# Altium schematic symbol library SIM808 dev Board V1.0.2.SCHLIB: 17 symbols
Pins are listed as number, name and electrical type; pins without a type are passive.

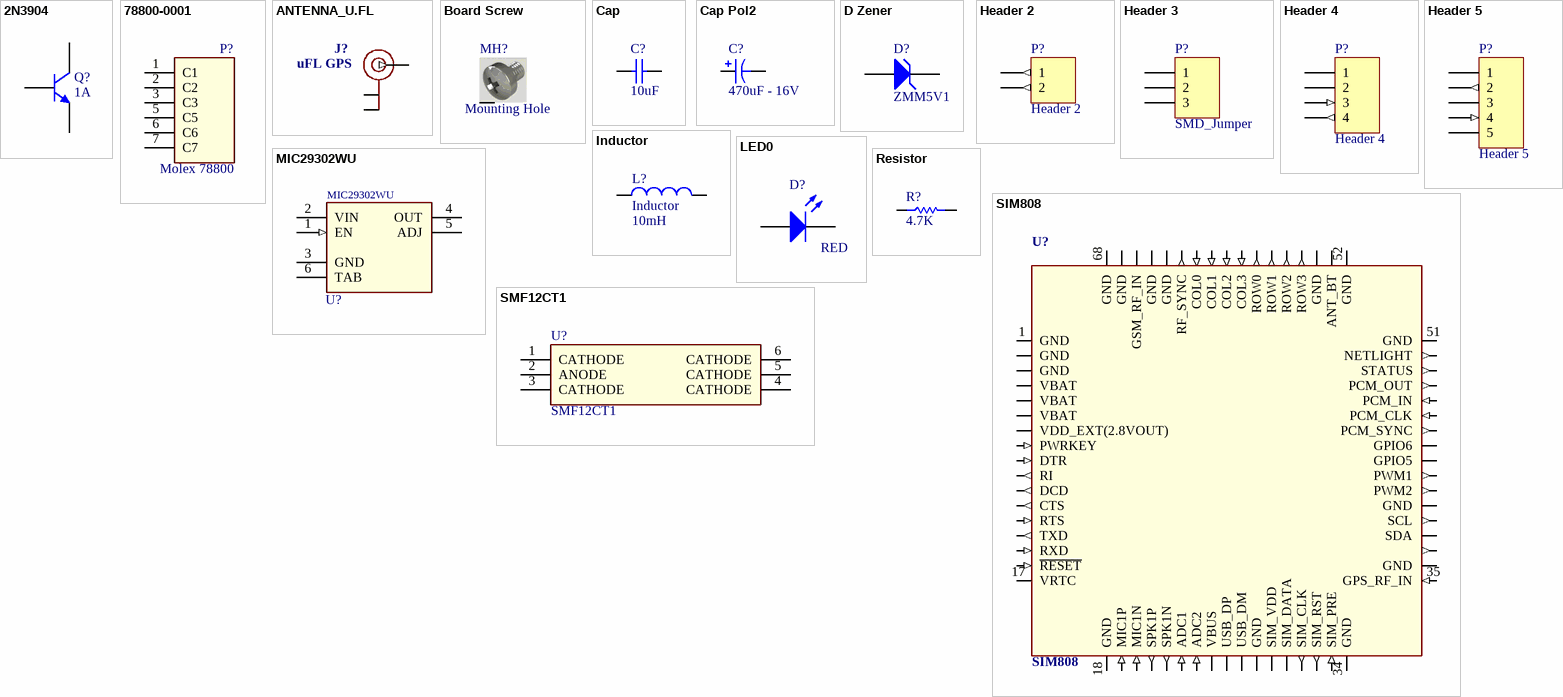
[diagram p0: symbols 2N3904 to SMF12CT1]

## 2N3904
designator Q?, comment 1A
Infineon; Published: 8-Jun-2000; LatestRevisionDate: 17-Jan-2003; LatestRevisionNote: PCB Footprint 'BCY-W3/D4.7' replaced; DatasheetDocument: 1997; PackageDocument: Sep-1998; PackageReference: TO-92A; Publisher: Altium Limited; ComponentLink1Description: Manufacturer Link; ComponentLink1URL: http://www.fairchildsemi.com/; ComponentLink2Description: Datasheet; ComponentLink2URL: http://www.fairchildsemi.com/ds/2N%2F2N3904.pdf
footprint SOT-23
simulation model 2N3904 (NPN)
signal-integrity model 2N3904
pins: 1 B, 2 E, 3 C

## 78800-0001
designator P?, comment Molex 78800
Molex 78800-0001 1.40mm Height Hinged-style micro-SIM Card Socket without Detect Switch, Surface Mount, 6 Circuits, Halogen-Free, Lead...; MP: 78800-0001; Package: None; Availability: Unavailable; MF: Molex; Price: None; SnapEDA_Link: https://www.snapeda.com/parts/78800-0001/Molex/view-part/?ref=snap; Value: *
footprint MOLEX_78800-0001
pins: 1 C1, 2 C2, 3 C3, 5 C5, 6 C6, 7 C7

## ANTENNA_U.FL
designator J?, comment uFL GPS
U.FL Antenna Connector; GateName_1: G$1; DeviceSetName: ANTENNA_U.FL; SymbolName_1: U.FL; LibraryName: microbuilder
footprint UFL
pins: 1 GND, 2 GND, 3 SIGNAL (out)

## Board Screw
designator MH?, comment Mounting Hole  (no BOM)
Board Screw With Spacer
footprint SCREW-3
footprint Board Screw_No Silk
pins: S

## Cap
designator C?, comment 10uF
Capacitor; Published: 8-Jun-2000; LatestRevisionDate: 17-Jul-2002; LatestRevisionNote: Re-released for DXP Platform.; PackageReference: RAD-0.3; Publisher: Altium Limited; PackageDescription: Radial Cap, Thru-Hole; 2 Leads; 0.3 in Pin Spacing; Value: 10uF
footprint C0805 (Chip Capacitor, Body 2.0x1.3mm, IPC High Density)
simulation model CAP (Capacitor)
signal-integrity model Cap
footprint CAP0805
footprint CAP1206
pins: 1, 2

## Cap Pol2
designator C?, comment value 470uF - 16V  (hidden comment: 470uF)
SMD Tantalum Capacitor; Published: 8-Jun-2000; LatestRevisionDate: 17-Jul-2002; LatestRevisionNote: Re-released for DXP Platform.; PackageReference: POLAR0.8; Publisher: Altium Limited; PackageDescription: Polarized Capacitor; 2 Leads
footprint POLAR0.8 (Polarized Capacitor; 2 Leads)
simulation model CAP (Capacitor)
signal-integrity model Cap Pol
footprint CAP-D (Chip Capacitor, Body 7.2x3.8mm, IPC Medium Density)
pins: 1, 2
1 alternate drawing of the same symbol

## D Zener
designator D?, comment ZMM5V1
ZENER 5.1V-MINI MELF; Published: 8-Jun-2000; LatestRevisionDate: 17-Jul-2002; LatestRevisionNote: Re-released for DXP Platform.; PackageReference: DIODE-0.7; Publisher: Altium Limited; PackageDescription: Diode, Thru-Hole; 2 Leads; 0.7 in Pin Spacing
footprint DIODE-SHOTTKY
simulation model ZENER (Diode)
signal-integrity model D Zener
footprint ZMM5V1
pins: 1 A, 2 K

## Header 2
designator P?
Header, 2-Pin; LatestRevisionDate: 17-Jul-2002; LatestRevisionNote: Re-released for DXP Platform.; Publisher: Altium Limited
footprint HDR1X2 (Connector; Header; 2 Position)
signal-integrity model Connector
pins: 1 (out), 2 (out)

## Header 3
designator P?, comment SMD_Jumper
Header, 3-Pin; LatestRevisionDate: 17-Jul-2002; LatestRevisionNote: Re-released for DXP Platform.; Publisher: Altium Limited
footprint Jumper Selector SMD
signal-integrity model Connector
pins: 1, 2, 3

## Header 4
designator P?
Header, 4-Pin; LatestRevisionDate: 17-Jul-2002; LatestRevisionNote: Re-released for DXP Platform.; Publisher: Altium Limited
footprint Pin Header 1x4 TH Pitch 2.54mm (PinHeader 1x4 TH Pitch 2.54mm)
signal-integrity model Connector
pins: 1 (power), 2 (power), 3 (in), 4 (out)

## Header 5
designator P?
Header, 5-Pin; LatestRevisionDate: 17-Jul-2002; LatestRevisionNote: Re-released for DXP Platform.; Publisher: Altium Limited
footprint Pin Header 1x5 TH Pitch 2.54mm (PinHeader 1x5 TH Pitch 2.54mm)
signal-integrity model Connector
pins: 1 (power), 2 (out), 3 (power), 4 (in), 5 (power)

## Inductor
designator L?  value 10mH
Code_IEC: 1005; Published: 8-Jun-2000; LatestRevisionDate: 29-May-2009; LatestRevisionNote: IPC-7351 Footprint Added.; PackageReference: 0402-A; Publisher: Altium Limited; PackageDescription: Chip Inductor; Code_JEITA: 0402
footprint 0402-A (Chip Inductor, Body 1.0x0.5mm, IPC High Density)
footprint IND0603
footprint 2029 (Chip Inductor, Body 2.0x1.2mm, IPC High Density)
footprint 0603 (Chip Inductor, Body 0.6x0.3mm, IPC High Density)
footprint INDC3216 (Chip Inductor, Body 3.2x1.6mm, IPC High Density)
footprint INDC4532 (Chip Inductor, Body 4.5x3.2mm, IPC High Density)
simulation model INDUCTOR (Inductor)
signal-integrity model Inductor
pins: 1, 2

## LED0
designator D?, comment Color: RED  (hidden comment: PPS)
Typical INFRARED GaAs LED; Published: 8-Jun-2000; LatestRevisionDate: 08-Jul-2005; LatestRevisionNote: Mech Layer 1 removed.; PackageReference: LED-0; Publisher: Altium Limited; PackageDescription: LED; 2 Leads
footprint LED-GHABDAR (Typical RED GaAs LED; 2 Leads)
simulation model LED0 (Diode)
footprint LED SMD (603)
footprint LED0603R
pins: 1 A, 2 K

## MIC29302WU
designator U?  (value not drawn)
MIC29302 Series 16 V 3 A Surface Mount Low Dropout Voltage Regulator - TO-263-5; MP: MIC29302AWU-TR; MF: Microchip; Package: TO-263-5 Microchip; Availability: Unavailable; Price: None; SnapEDA_Link: https://www.snapeda.com/parts/MIC29302AWU-TR/Microchip/view-part/?ref=snap; Value: *
footprint TO263-5
pins: 1 EN (in), 2 VIN (power), 3 GND (power), 4 OUT (power), 5 ADJ (power), 6 TAB (power)

## Resistor
designator R?, comment 4.7K
Resistor; Tolerance: 5%; Power: 1/8 W; Value: 4.7K
simulation model Model Name (Model Description)
footprint Res-(1/8)
footprint Res-(1/4)
footprint Res-(1/2)
footprint Res-(1/1)
footprint Res-(2/1)
footprint RES 0201 (0603X03L) (Chip Resistor, 2-Leads, Body 0.6x0.3mm, IPC High Density (0.05 W))
footprint RES 0402 (1005X04L) (Chip Resistor, 2-Leads, Body 1.0x0.5mm, IPC High Density _ (0.031/0.063 W))
footprint RES 0603 (1608X06L) (Chip Resistor, 2-Leads, Body 1.6x0.8mm, IPC High Density _ (0.063W))
footprint RES 0805 (2012X06L) (Chip Resistor, 2-Leads, Body 2.0x1.3mm, IPC High Density _ (0.100 W))
footprint RES 1206 (3216X08L) (Chip Resistor, 2-Leads, Body 3.2x1.6mm, IPC High Density _ (0.125 W))
footprint RES 1210 (3226X07L) (Chip Resistor, 2-Leads, Body 3.2x2.6mm, IPC High Density _ (0.250 W))
footprint RES 1217 (3042X09L) (Chip Resistor, 2-Leads, Body 3.0x4.2mm, IPC High Density _ (0.250 W))
footprint RES 2010 (5026X08L) (Chip Resistor, 2-Leads, Body 5.0x2.6mm, IPC High Density _ (0.250 W))
footprint RES 2020 (5151X09L) (Chip Resistor, 2-Leads, Body 5.1x5.1mm, IPC High Density _ (0.5 W))
footprint RES 2045 (50115X09L) (Chip Resistor, 2-Leads, Body 5.0x11.5mm, IPC High Density _ (1.0 W))
footprint RES 2512 (6331X07L) (Chip Resistor, 2-Leads, Body 6.3x3.1mm, IPC High Density _ (0.500 W))
footprint Res-(1/4)-Stand
footprint Res-(5/1)-Stand
footprint SMD_RES_0603 (Chip Resistor, 2-Leads, Body 1.6x0.8mm, IPC High Density _ (0.063W))
footprint SMD_RES_0805 (Chip Resistor, 2-Leads, Body 2.0x1.3mm, IPC High Density _ (0.100 W))
footprint SMD_RES_1206 (Chip Resistor, 2-Leads, Body 3.2x1.6mm, IPC High Density _ (0.125 W))
footprint CR RES0603
footprint CAP0805
footprint RES0805
footprint 6-0805_N
footprint RES0603
pins: 1, 2

## SIM808
designator U?
SIM808 module is a complete Quad-Band GSM/GPRS module which combines GPS technology for satellite navigation.; GateName_1: G$1; SymbolName_1: SIM808_LITERAL; DeviceSetName: GSM_SIM808_LITERAL; LibraryName: microbuilder
footprint QFN100P2400X2400X260-68N
pins: 1 GND (power), 2 GND (power), 3 GND (power), 4 VBAT (power), 5 VBAT (power), 6 VBAT (power), 7 VDD_EXT(2.8VOUT) (power), 8 PWRKEY (in), 9 DTR (in), 10 RI (out), 11 DCD (out), 12 CTS (out), 13 RTS (in), 14 TXD (out), 15 RXD (in), 16 ~{RESET} (in), 17 VRTC (power), 18 GND (power), 19 MIC1P (in), 20 MIC1N (in), 21 SPK1P (out), 22 SPK1N (out), 23 ADC1 (in), 24 ADC2 (in), 25 VBUS (power), 26 USB_DP (io), 27 USB_DM (io), 28 GND (power), 29 SIM_VDD (power), 30 SIM_DATA (io), 31 SIM_CLK (out), 32 SIM_RST (out), 33 SIM_PRE (in), 34 GND (power), 35 GPS_RF_IN (in), 36 GND (power), 37 1PPS (out), 38 SDA (io), 39 SCL (out), 40 GND (power), 41 PWM2 (out), 42 PWM1 (out), 43 GPIO5 (io), 44 GPIO6 (io), 45 PCM_SYNC (out), 46 PCM_CLK (in), 47 PCM_IN (in), 48 PCM_OUT (out), 49 STATUS (out), 50 NETLIGHT (out), 51 GND (power), 52 GND (power), 53 ANT_BT (io), 54 GND (power), 55 ROW3 (out), 56 ROW2 (out), 57 ROW1 (out), 58 ROW0 (out), 59 COL3 (in), 60 COL2 (in), 61 COL1 (in), 62 COL0 (in), 63 RF_SYNC (out), 64 GND (power), 65 GND (power), 66 GSM_RF_IN (io), 67 GND (power), 68 GND (power)

## SMF12CT1
designator U?
5-Line Transient Voltage Suppressor Array; MF: ON Semiconductor; Package: SOT-363 ON Semiconductor; SnapEDA_Link: https://www.snapeda.com/parts/SMF12CT1/ON%20Semiconductor/view-part/?ref=snap; MP: SMF12CT1; Availability: Unavailable; Price: None; Value: *
footprint INF-PG-SOT-363_M (Footprint not found)
pins: 1 CATHODE, 2 ANODE, 3 CATHODE, 4 CATHODE, 5 CATHODE, 6 CATHODE